# Altium schematic symbol library Symbol.SchLib: 1 symbol
Pins are listed as number, name and electrical type; pins without a type are passive.

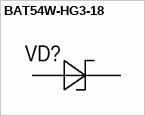
[diagram p0: symbol BAT54W-HG3-18]

## BAT54W-HG3-18
designator VD?  (value not drawn)
Schottky Diodes & Rectifiers 30V Schottky DIODE
footprint SOD-123 (Chip Diode, 2-Leads, Body 2.70x1.55mm, IPC Medium Density)
pins: 1, 2